# Altium footprint library Chronos.PcbLib: 47 footprints (part 1 of 3)
Each footprint in its own frame and in the unit in brackets; x right, y up, seen from the top. Pads: shape width x height; smd on the part's side, far side on the other; paste and mask are expansions set on the pad; w line width, h text height; cw(c..) or ccw(c..) is an arc to the next point about the centre after c.
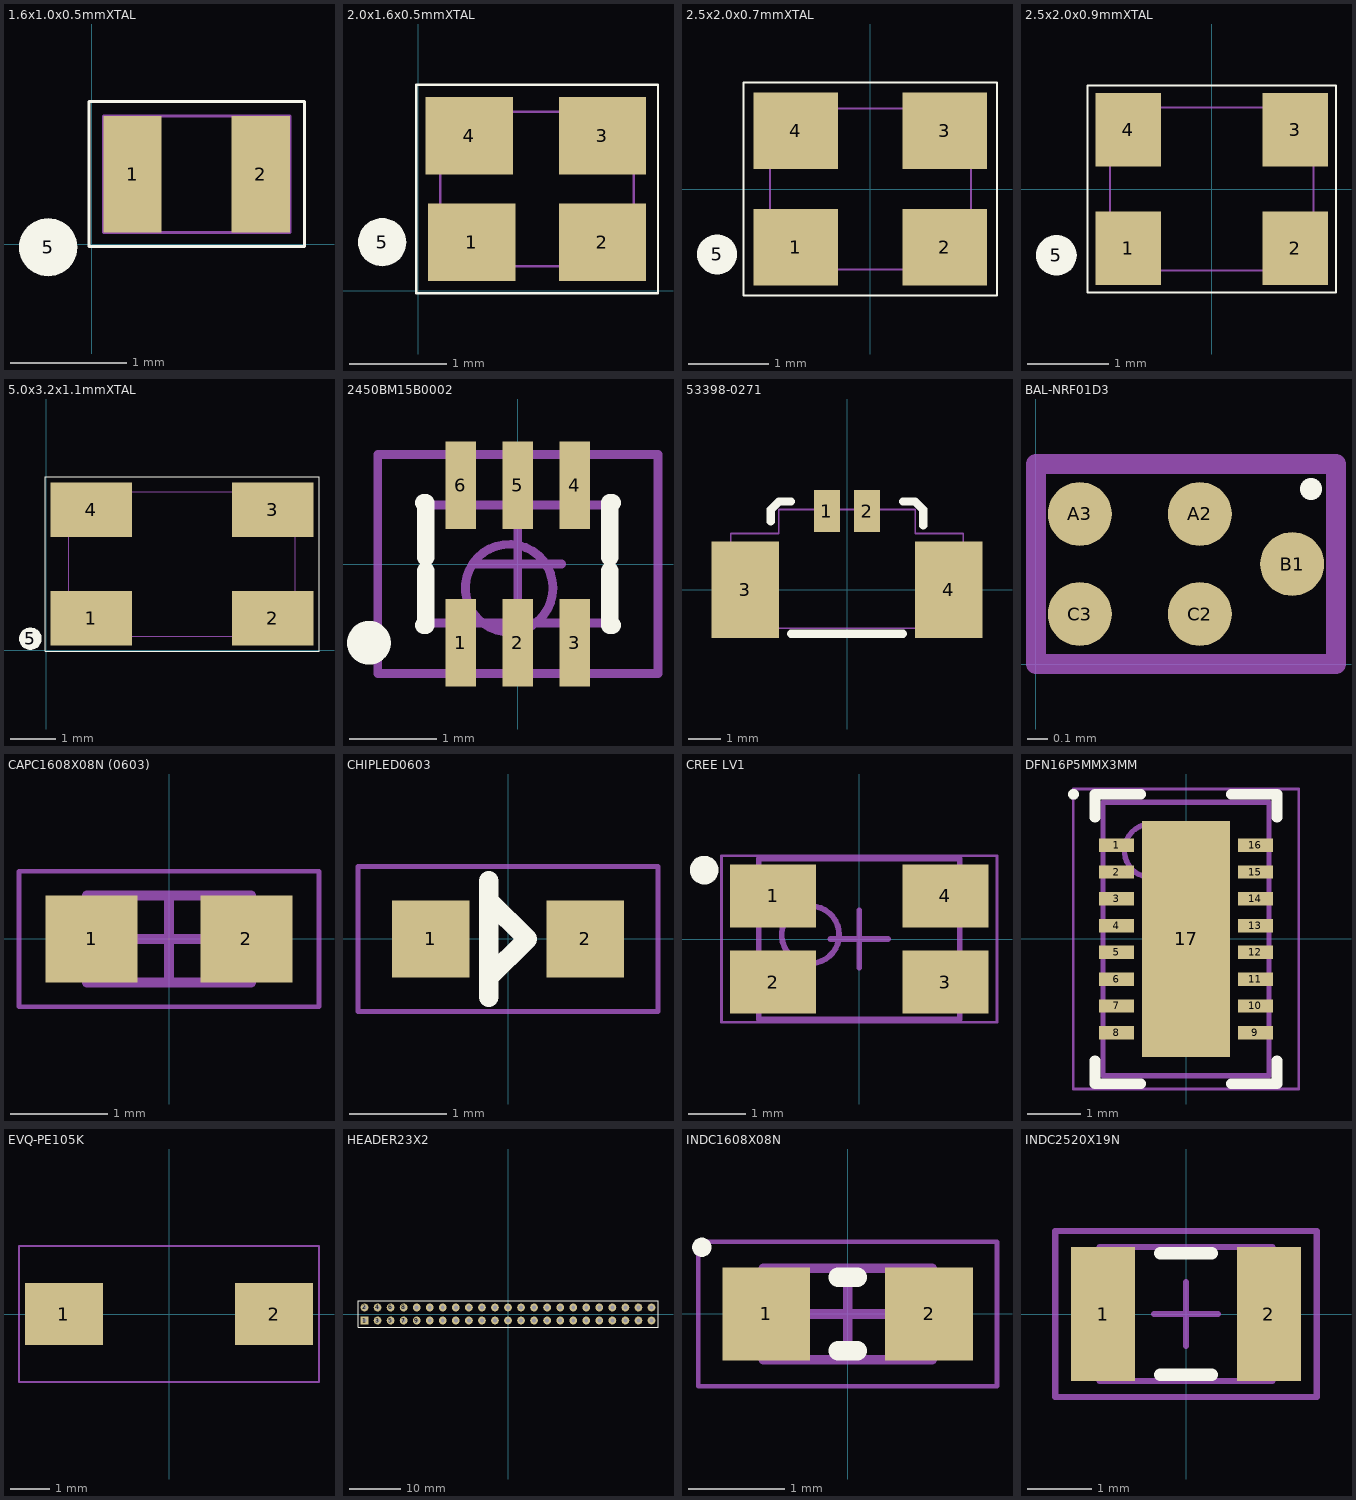
[diagram p0: the footprints below, top view; thin cyan lines are the x and y axes]

## 1.6x1.0x0.5mmXTAL [mm]
pads (3):
  rect 0.5x1 smd: 1(0.35,0.6) 2(1.45,0.6)
  round 0.5 on Top Overlay: 5(-0.375,-0.025)
Top Overlay:
  lines w0.025: -0.024,-0.02 1.825,-0.02 1.825,1.225 -0.024,1.225 -0.024,-0.02
Mechanical 1:
  lines w0.025: 0.1,0.1 1.7,0.1 1.7,1.1 0.1,1.1 0.1,0.1
3D body "User Library-ABS05.step": height 0.5, standoff 0, extent 0.1,0.1 1.7,1.1

## 2.0x1.6x0.5mmXTAL [mm]
pads (5):
  rect 0.9x0.8 smd: 1(0.55,0.5) 2(1.9,0.5) 3(1.9,1.6) 4(0.525,1.6)
  round 0.5 on Top Overlay: 5(-0.375,0.5)
Top Overlay:
  lines w0.025: -0.025,-0.025 2.475,-0.025 2.475,2.125 -0.025,2.125 -0.025,-0.025
Mechanical 1:
  lines w0.025: 0.225,0.25 2.225,0.25 2.225,1.85 0.225,1.85 0.225,0.25
3D body: height 0.5, standoff 0, extent 0.225,0.25 2.225,1.85

## 2.5x2.0x0.7mmXTAL [mm]
pads (5):
  rect 1.05x0.95 smd: 1(-0.925,-0.725) 2(0.925,-0.725) 3(0.925,0.725) 4(-0.925,0.725)
  round 0.5 on Top Overlay: 5(-1.905,-0.813)
Top Overlay:
  lines w0.025: -1.575,-1.325 1.575,-1.325 1.575,1.325 -1.575,1.325 -1.575,-1.325
Mechanical 1:
  lines w0.025: -1.25,-1 1.25,-1 1.25,1 -1.25,1 -1.25,-1
3D body "User Library-VCXO 2_5x2_0.step": height 0.7, standoff -0.01, extent -1.25,-1 1.25,1

## 2.5x2.0x0.9mmXTAL [mm]
pads (5):
  rect 0.8x0.9 smd: 1(-1.025,-0.725) 2(1.025,-0.725) 3(1.025,0.725) 4(-1.025,0.725)
  round 0.5 on Top Overlay: 5(-1.905,-0.813)
Top Overlay:
  lines w0.025: -1.524,-1.27 -1.524,1.27 1.524,1.27 1.524,-1.27 -1.524,-1.27
Mechanical 1:
  lines w0.025: -1.25,-1 -1.25,1 1.25,1 1.25,-1 -1.25,-1
3D body "User Library-ABM10_Xtal.step": height 0.7, standoff -0.01, extent -1.3,-1.059 1.3,1.041

## 5.0x3.2x1.1mmXTAL [mm]
pads (5):
  rect 1.8x1.2 smd: 1(1,0.7) 2(5,0.7) 3(5,3.1) 4(1,3.1)
  round 0.5 on Top Overlay: 5(-0.35,0.25)
Top Overlay:
  lines w0.025: -0.025,-0.025 -0.025,3.825 6.025,3.825 6.025,-0.025 -0.025,-0.025
Mechanical 1:
  lines w0.025: 0.5,0.3 0.5,3.5 5.5,3.5 5.5,0.3 0.5,0.3
3D body "User Library-ABM3B.STEP": height 1.11, standoff 0.01, extent 0.5,0.3 5.5,3.5

## 2450BM15B0002 [mm] "2.45 GHz Balun"
height 0.95
pads (6):
  rect 0.35x1 smd: 1(-0.65,-0.9) 2(0,-0.9) 3(0.65,-0.9) 4(0.65,0.9) 5(0,0.9) 6(-0.65,0.9)
Top Overlay:
  circle w0.25: c-1.7,-0.9 r0.125
  lines w0.2: -1.075,-0.7 -1.05,-0.7 -1.05,-0.075 ; -1.075,0.7 -1.05,0.7 -1.05,0.075 ; 1.05,-0.075 1.05,-0.7 1.075,-0.7 ; 1.05,0.075 1.05,0.7 1.075,0.7
Mechanical 13:
  circle w0.1: c-0.1,-0.275 r0.5
  lines w0.1: -1.05,-0.675 1.05,-0.675 1.05,0.675 -1.05,0.675 -1.05,-0.675
Mechanical 15:
  lines w0.1: -0.5,0 0.5,0 ; 0,-0.5 0,0.5 ; -1.6,-1.25 1.6,-1.25 1.6,1.25 -1.6,1.25 -1.6,-1.25
3D body: height 0.95, standoff 0.05, extent -1.05,-0.675 1.05,0.675

## 53398-0271 [mm] "1.25mm Pitch PicoBlade™ Header, Surface Mount, Vertical, Lead-Free, 2 Circuits"
height 5
pads (4):
  rect 0.8x1.3 smd: 1(-0.625,2.45) 2(0.625,2.45)
  rect 2.1x3 smd: 3(-3.175,0) 4(3.175,0)
Top Overlay:
  lines w0.254: -2.375,2.125 -2.375,2.5 -2.125,2.75 -1.75,2.75 ; -1.75,-1.375 1.75,-1.375 ; 1.75,2.75 2.125,2.75 2.375,2.5 2.375,2
Mechanical 13:
  lines w0.051: -3.625,-1.2 3.625,-1.2 3.625,1.75 2.125,1.75 2.125,2.5 -2.125,2.5 -2.125,1.75 -3.625,1.75 -3.625,-1.2
3D body "533980271.stp": height 4.7, standoff 0, extent -3.825,-1.325 3.825,2.875

## BAL-NRF01D3 [mm]
pads (5):
  round 0.32 smd: A2(0.819,0.75) A3(0.219,0.75) B1(1.281,0.5) C2(0.819,0.25) C3(0.219,0.25)
Top Overlay:
  circle w0.1: c1.375,0.875 r0.005
Mechanical 15:
  lines w0.1: 0,0 1.5,0 1.5,1 0,1 0,0
3D body: height 0.63, standoff 0.21, extent 0,0 1.5,1

## CAPC1608X08N (0603) [mm] "Chip Capacitor, 2-Leads, Body 1.60x0.80mm, IPC Medium Density"
height 0.8
pads (2):
  rect 0.95x0.9 smd: 1(-0.8,0) 2(0.8,0)
Mechanical 13:
  lines w0.1: -0.85,-0.45 -0.85,0.45 0.85,0.45 0.85,-0.45 -0.85,-0.45
Mechanical 15:
  lines w0.05: -1.55,-0.7 -1.55,0.7 1.55,0.7 1.55,-0.7 -1.55,-0.7
  lines w0.1: -0.45,0 0.45,0 ; 0,-0.45 0,0.45
3D body: height 0.8, standoff 0, extent -0.5,-0.45 0.5,0.45
3D body: height 0.8, standoff 0, extent -0.85,-0.45 -0.5,0.45
3D body: height 0.8, standoff 0, extent 0.5,-0.45 0.85,0.45

## CHIPLED0603 [mm]
height 0.5
pads (2):
  rect 0.8x0.8 smd: 1(-0.8,0) 2(0.8,0)
Top Overlay:
  lines w0.203: -0.2,-0.6 -0.2,0.6 ; -0.2,-0.4 0.2,0 -0.2,0.4
Mechanical 15:
  lines w0.05: -1.55,-0.75 -1.55,0.75 1.55,0.75 1.55,-0.75 -1.55,-0.75
3D body "User Library-led_0603.step": height 0.6, standoff 0, extent -0.81,-0.4 0.81,0.4

## CREE LV1 [mm]
height 2.1
pads (4):
  rect 1.5x1.1 smd: 1(-1.5,0.75) 2(-1.5,-0.75) 3(1.5,-0.75) 4(1.5,0.75)
Top Overlay:
  circle w0.25: c-2.7,1.2 r0.125
Mechanical 13:
  circle w0.1: c-0.85,0.075 r0.5
  lines w0.1: -1.75,-1.4 1.75,-1.4 1.75,1.4 -1.75,1.4 -1.75,-1.4
Mechanical 15:
  lines w0.05: -2.4,-1.45 -2.4,1.45 2.4,1.45 2.4,-1.45 -2.4,-1.45
  lines w0.1: -0.5,0 0.5,0 ; 0,-0.5 0,0.5
3D body "User Library-PLCC4RGBCT-CA LED SMD RGB.step": height 1.9, standoff 0, extent -1.75,-1.4 1.75,1.4

## DFN16P5MMX3MM [mm] "SON, 16-Leads, Body 5.00x3.00mm, Pitch 0.50mm, Thermal Pad 4.40x1.09mm, IPC Medium Density"
height 0.8
pads (17):
  rect 0.65x0.25 smd: 1(-1.295,1.75) 2(-1.295,1.25) 3(-1.295,0.75) 4(-1.295,0.25) 5(-1.295,-0.25) 6(-1.295,-0.75) 7(-1.295,-1.25) 8(-1.295,-1.75) 9(1.295,-1.75) 10(1.295,-1.25) 11(1.295,-0.75) 12(1.295,-0.25) 13(1.295,0.25) 14(1.295,0.75) 15(1.295,1.25) 16(1.295,1.75)
  rect 1.65x4.4 smd: 17(0,0)
Top Overlay:
  circle w0.1: c-2.1,2.7 r0.05
  lines w0.2: -1.7,-2.275 -1.7,-2.7 -0.845,-2.7 ; -1.7,2.275 -1.7,2.7 -0.845,2.7 ; 0.845,-2.7 1.7,-2.7 1.7,-2.275 ; 0.845,2.7 1.7,2.7 1.7,2.275
Mechanical 13:
  circle w0.1: c-0.65,1.65 r0.5
  lines w0.1: -1.55,-2.55 -1.55,2.55 1.55,2.55 1.55,-2.55 -1.55,-2.55
Mechanical 15:
  lines w0.05: -2.105,-2.8 -2.105,2.8 2.105,2.8 2.105,-2.8 -2.105,-2.8
  lines w0.1: -0.5,0 0.5,0 ; 0,-0.5 0,0.5
3D body: height 0.8, standoff 0, extent -1.55,-2.55 1.55,2.55

## EVQ-PE105K [mm]
height 0.5
pads (2):
  rect 2x1.6 smd: 1(-2.7,0) 2(2.7,0)
Mechanical 15:
  lines w0.05: -3.85,-1.75 3.85,-1.75 3.85,1.75 -3.85,1.75 -3.85,-1.75
3D body "User Library-EVQ-PE105K.step": height 5, standoff 0, extent -3.6,-1.75 3.6,1.75

## HEADER23X2 [mil] "HEADER23X2"
pads (46):
  rect 60x60 hole 30 mask+2: 1(-1100,-50)
  round 60 hole 30 mask+2: 2(-1100,50) 3(-1000,-50) 4(-1000,50) 5(-900,-50) 6(-900,50) 7(-800,-50) 8(-800,50) 9(-700,-50) 10(-700,50) 11(-600,-50) 12(-600,50) 13(-500,-50) 14(-500,50) 15(-400,-50) 16(-400,50) 17(-300,-50) 18(-300,50) 19(-200,-50) 20(-200,50) 21(-100,-50) 22(-100,50) 23(0,-50) 24(0,50) 25(100,-50) 26(100,50) 27(200,-50) 28(200,50) 29(300,-50) 30(300,50) 31(400,-50) 32(400,50) 33(500,-50) 34(500,50) 35(600,-50) 36(600,50) 37(700,-50) 38(700,50) 39(800,-50) 40(800,50) 41(900,-50) 42(900,50) 43(1000,-50) 44(1000,50) 45(1100,-50) 46(1100,50)
Top Overlay:
  lines w1: -1150,-100 -1150,100 -1050,100 1150,100 1150,-100 -1050,-100 -1150,-100
Bottom Overlay:
  text ".Designator" at 1237.5,-25 h40

## INDC1608X08N [mm] "Chip Inductor, 2-Leads, Body 1.60x0.80mm, IPC Medium Density"
height 0.8
pads (2):
  rect 0.91x0.96 smd: 1(-0.845,0) 2(0.845,0)
Top Overlay:
  circle w0.1: c-1.512,0.692 r0.05
  lines w0.2: -0.1,-0.38 0.1,-0.38 ; -0.1,0.38 0.1,0.38
Mechanical 13:
  lines w0.1: -0.875,-0.475 -0.875,0.475 0.875,0.475 0.875,-0.475 -0.875,-0.475
Mechanical 15:
  lines w0.05: -1.55,-0.75 -1.55,0.75 1.55,0.75 1.55,-0.75 -1.55,-0.75
  lines w0.1: -0.475,0 0.475,0 ; 0,-0.475 0,0.475
3D body: height 0.8, standoff 0, extent -0.525,-0.475 0.525,0.475
3D body: height 0.8, standoff 0, extent -0.875,-0.475 -0.525,0.475
3D body: height 0.8, standoff 0, extent 0.525,-0.475 0.875,0.475

## INDC2520X19N [mm] "Chip Inductor, 2-Leads, Body 2.5x2.0mm, IPC Medium Density"
height 1.9
pads (2):
  rect 1x2.1 smd: 1(-1.3,0) 2(1.3,0)
Top Overlay:
  lines w0.2: -0.4,-0.95 0.4,-0.95 ; -0.4,0.95 0.4,0.95
Mechanical 13:
  lines w0.1: -1.35,-1.05 -1.35,1.05 1.35,1.05 1.35,-1.05 -1.35,-1.05
Mechanical 15:
  lines w0.1: -0.5,0 0.5,0 ; 0,-0.5 0,0.5 ; -2.05,-1.3 -2.05,1.3 2.05,1.3 2.05,-1.3 -2.05,-1.3
3D body: height 1.9, standoff 0, extent -1.35,-1.05 1.35,1.05